# Altium footprint library 222_166_TRANS.PcbLib: 1 footprints
Each footprint in its own frame and in the unit in brackets; x right, y up, seen from the top. Pads: shape width x height; smd on the part's side, far side on the other; paste and mask are expansions set on the pad; w line width, h text height; cw(c..) or ccw(c..) is an arc to the next point about the centre after c.
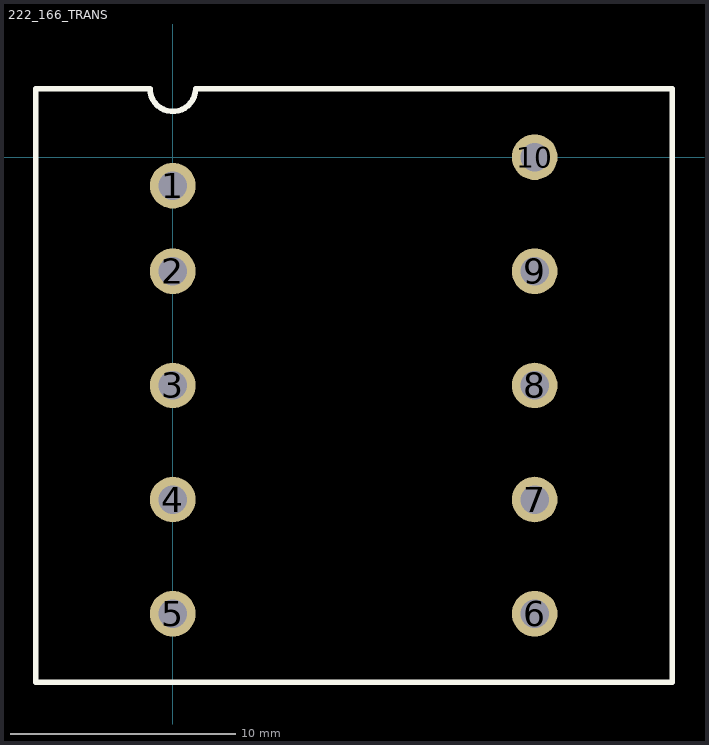
[diagram p0: the footprint, top view; thin cyan lines are the x and y axes]

## 222_166_TRANS [mil]
height 825
pads (10):
  round 80 hole 50: 1(0,-50) 2(0,-200) 3(0,-400) 4(0,-600) 5(0,-800) 6(634,-800) 7(634,-600) 8(634,-400) 9(634,-200) 10(634,0)
Top Overlay:
  lines w10: -240,-920 875,-920 875,120 40,120 cw(c0,120) -40,120 -240,120 -240,-920
3D body: height 825, standoff 0, extent -240,-920 875,120